# EAGLE library part BSL806N (library infineon)
Small Signal Transistor by Infineon. OPTIMOS-T2 Technology
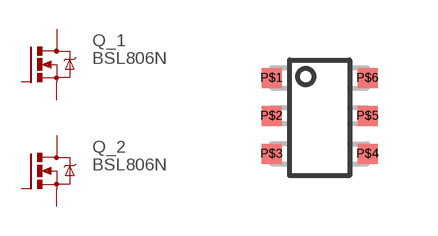
[diagram p0: symbol with the pads of TSOP-6; footprint TSOP-6]

Designator prefix Q; gates _1=MOSFET_N-KANAL _2=MOSFET_N-KANAL

## BSL806N  [TSOP-6]
P$1  _1:G  pas
P$2  _2:S  pas
P$3  _2:G  pas
P$4  _2:D  pas
P$5  _1:S  pas
P$6  _1:D  pas

## Footprint TSOP-6 (pad centres in mm)
smd 0.5 x 0.5: P$1 0.25,-0.25; P$2 0.25,-1.2; P$3 0.25,-2.15; P$4 2.65,-2.15; P$5 2.65,-1.2; P$6 2.65,-0.25